# Altium footprint library wius.PcbLib: 37 footprints (part 2 of 3)
Each footprint in its own frame and in the unit in brackets; x right, y up, seen from the top. Pads: shape width x height; smd on the part's side, far side on the other; paste and mask are expansions set on the pad; w line width, h text height; cw(c..) or ccw(c..) is an arc to the next point about the centre after c.
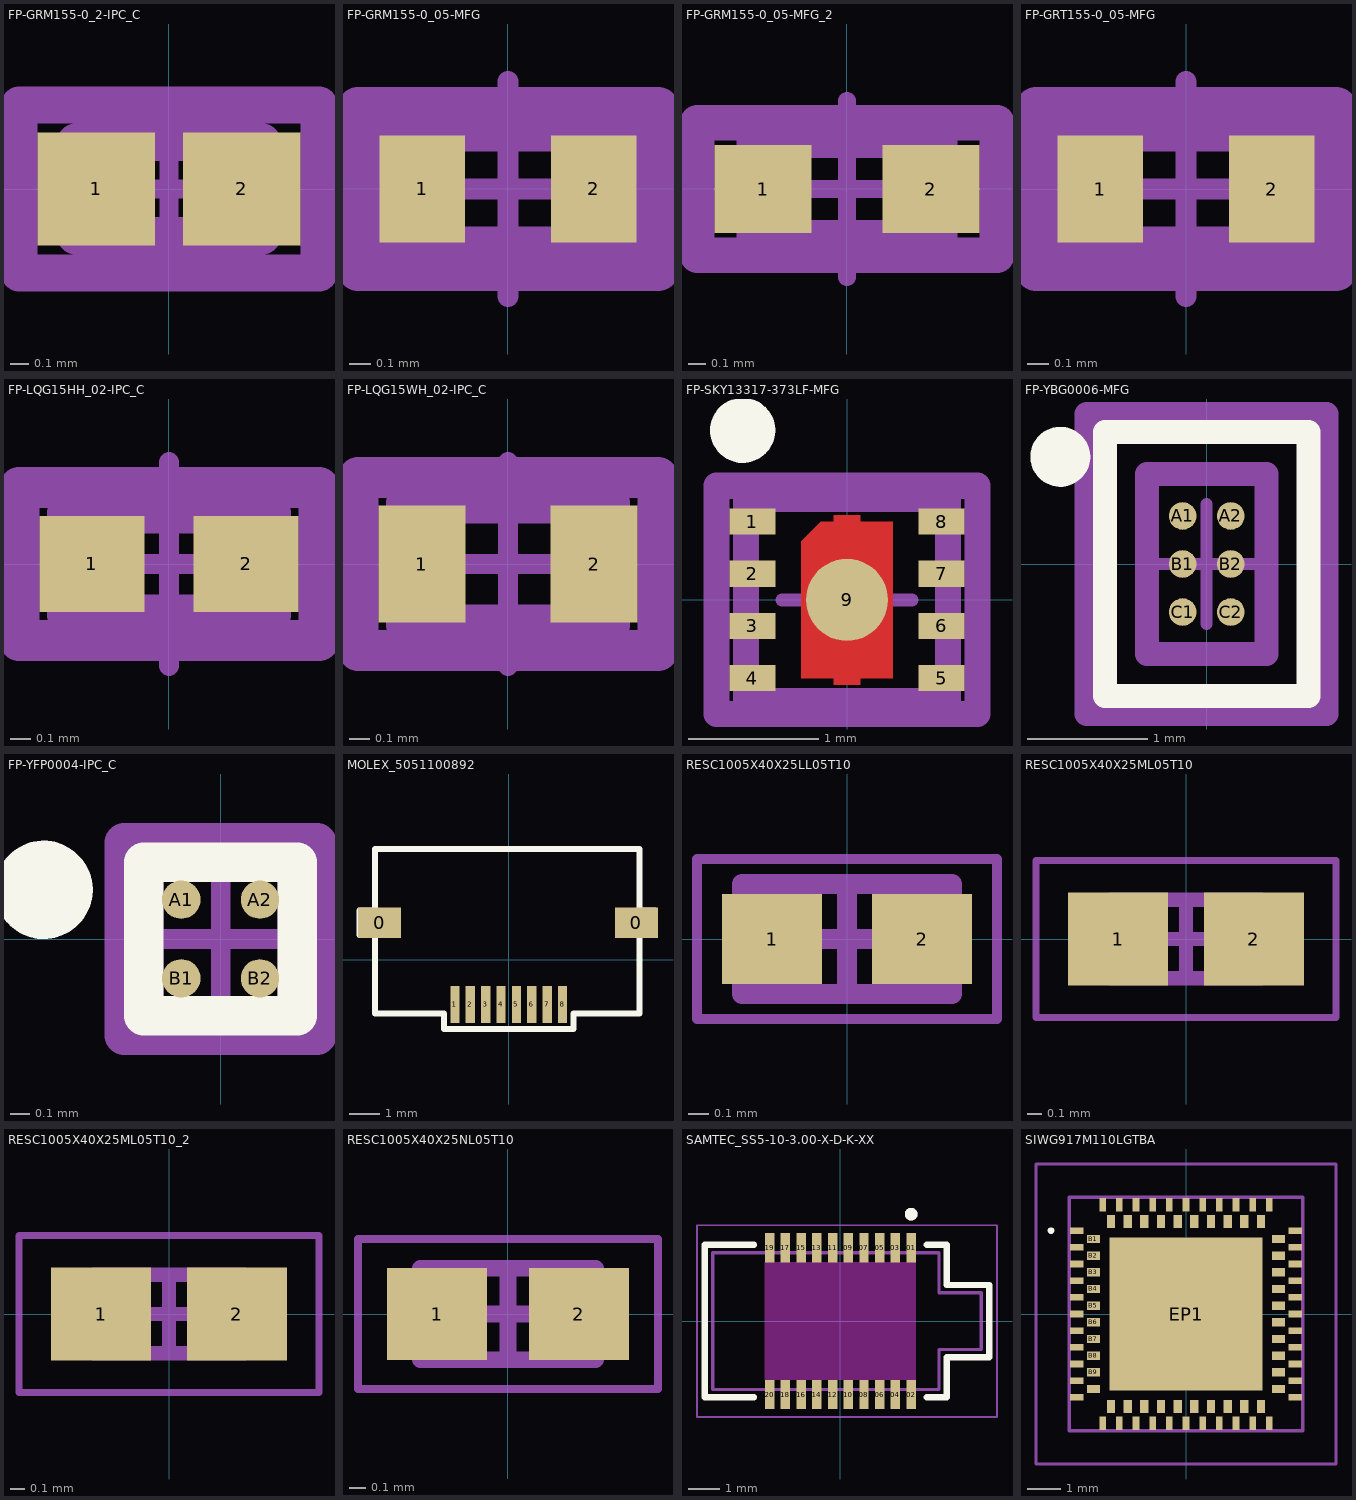
[diagram p1: the footprints below, top view; thin cyan lines are the x and y axes]

## FP-GRM155-0_2-IPC_C [mm]
pads (2):
  rect 0.628x0.606 smd paste+0 mask+0: 1(-0.389,0) 2(0.389,0)
Top Assembly:
  lines w0.2: -0.803,-0.45 0.803,-0.45 0.803,0.45 -0.803,0.45 -0.803,-0.45
  text ".Designator" at 0,0.189 h1
Top 3D Body:
  lines w0.2: -0.5,-0.25 0.5,-0.25 0.5,0.25 -0.5,0.25 -0.5,-0.25
Top Courtyard:
  lines w0.2: -0.803,-0.45 0.803,-0.45 0.803,0.45 -0.803,0.45 -0.803,-0.45
Top Component Center:
  lines w0.1: -0.5,0 0.5,0 ; 0,-0.5 0,0.5
3D body "Cap_Murata_GRM155R61E225KE11D_eec.STEP": height 0.7, standoff 0, extent -0.5,-0.25 0.5,0.25

## FP-GRM155-0_05-MFG [mm]
pads (2):
  rect 0.4x0.5 smd paste+0 mask+0: 1(-0.4,0) 2(0.4,0)
Top Assembly:
  lines w0.2: -0.7,-0.375 -0.7,0.375 0.7,0.375 0.7,-0.375 -0.7,-0.375
  text ".Designator" at 0,0.189 h1
Top 3D Body:
  lines w0.2: -0.525,-0.275 -0.525,0.275 0.525,0.275 0.525,-0.275 -0.525,-0.275
Top Courtyard:
  lines w0.2: -0.7,-0.375 -0.7,0.375 0.7,0.375 0.7,-0.375 -0.7,-0.375
Top Component Center:
  lines w0.1: -0.5,0 0.5,0 ; 0,-0.5 0,0.5
3D body "Cap_Murata_GRM1552C1H271GA01J_eec.STEP": height 0.55, standoff 0, extent -0.5,-0.25 0.5,0.25

## FP-GRM155-0_05-MFG_2 [mm]
pads (2):
  rect 0.55x0.5 smd paste+0 mask+0: 1(-0.475,0) 2(0.475,0)
Top Assembly:
  lines w0.2: -0.85,-0.375 -0.85,0.375 0.85,0.375 0.85,-0.375 -0.85,-0.375
  text ".Designator" at 0,0.189 h1
Top 3D Body:
  lines w0.2: -0.525,-0.275 -0.525,0.275 0.525,0.275 0.525,-0.275 -0.525,-0.275
Top Courtyard:
  lines w0.2: -0.85,-0.375 -0.85,0.375 0.85,0.375 0.85,-0.375 -0.85,-0.375
Top Component Center:
  lines w0.1: -0.5,0 0.5,0 ; 0,-0.5 0,0.5
3D body "Cap_Murata_Electronics_North_America_GRM1555C1H8R2DA01D_eec.STEP": height 0.25, standoff 0, extent -0.85,-0.375 0.85,0.375

## FP-GRT155-0_05-MFG [mm]
height 2.5
pads (2):
  rect 0.4x0.5 smd paste+0 mask+0: 1(-0.4,0) 2(0.4,0)
Top Assembly:
  lines w0.2: -0.7,-0.375 0.7,-0.375 0.7,0.375 -0.7,0.375 -0.7,-0.375
  text ".Designator" at 0,0.189 h1
Top 3D Body:
  lines w0.2: -0.525,-0.275 0.525,-0.275 0.525,0.275 -0.525,0.275 -0.525,-0.275
Top Courtyard:
  lines w0.2: -0.7,-0.375 0.7,-0.375 0.7,0.375 -0.7,0.375 -0.7,-0.375
Top Component Center:
  lines w0.1: -0.5,0 0.5,0 ; 0,-0.5 0,0.5
3D body "Cap_Murata_GRT155C80G225KE13J_eec.STEP": height 0.55, standoff 0, extent -0.5,-0.25 0.5,0.25

## FP-LQG15HH_02-IPC_C [mm]
pads (2):
  rect 0.515x0.472 smd paste+0 mask+0: 1(-0.379,0) 2(0.379,0)
Top Assembly:
  lines w0.2: -0.736,-0.375 -0.736,0.375 0.736,0.375 0.736,-0.375 -0.736,-0.375
  text ".Designator" at 0,0 h1
Top 3D Body:
  lines w0.2: -0.5,-0.25 -0.5,0.25 0.5,0.25 0.5,-0.25 -0.5,-0.25
Top Courtyard:
  lines w0.2: -0.736,-0.375 -0.736,0.375 0.736,0.375 0.736,-0.375 -0.736,-0.375
Top Component Center:
  lines w0.1: -0.5,0 0.5,0 ; 0,-0.5 0,0.5
3D body "Ind_Murata_LQG15HN39NJ02D_eec.STEP": height 0.25, standoff 0, extent -0.736,-0.375 0.736,0.375

## FP-LQG15WH_02-IPC_C [mm]
pads (2):
  rect 0.427x0.572 smd paste+0 mask+0: 1(-0.423,0) 2(0.423,0)
Top Assembly:
  lines w0.2: -0.736,-0.425 -0.736,0.425 0.736,0.425 0.736,-0.425 -0.736,-0.425
  text ".Designator" at 0,0 h1
Top 3D Body:
  lines w0.2: -0.5,-0.3 -0.5,0.3 0.5,0.3 0.5,-0.3 -0.5,-0.3
Top Courtyard:
  lines w0.2: -0.736,-0.425 -0.736,0.425 0.736,0.425 0.736,-0.425 -0.736,-0.425
Top Component Center:
  lines w0.1: -0.5,0 0.5,0 ; 0,-0.5 0,0.5
3D body "Ind_Murata_LQG15WZ1N1S02J_eec.STEP": height 0.25, standoff 0, extent -0.736,-0.425 0.736,0.425

## FP-SKY13317-373LF-MFG [mm]
pads (9):
  rect 0.35x0.2 smd paste+0 mask+0: 1(-0.725,0.6) 2(-0.725,0.2) 3(-0.725,-0.2) 4(-0.725,-0.6) 5(0.725,-0.6) 6(0.725,-0.2) 7(0.725,0.2) 8(0.725,0.6)
  round 0.63 smd paste+0 mask+0: 9(0,0)
Top Layer:
  region: 0.35,0.6 0.1,0.6 0.1,0.65 -0.1,0.65 -0.1,0.6 -0.2,0.6 -0.35,0.45 -0.35,-0.6 -0.1,-0.6 -0.1,-0.65 0.1,-0.65 0.1,-0.6 0.35,-0.6
Top Overlay:
  circle w0.25: c-0.8,1.3 r0.125
Top Assembly:
  lines w0.2: -1,-0.875 -1,0.875 1,0.875 1,-0.875 -1,-0.875
  text ".Designator" at 0,0 h1
Top 3D Body:
  lines w0.2: -0.775,-0.775 -0.775,0.775 0.775,0.775 0.775,-0.775 -0.775,-0.775
Top Courtyard:
  lines w0.2: -1,-0.875 -1,0.875 1,0.875 1,-0.875 -1,-0.875
Top Component Center:
  lines w0.1: -0.5,0 0.5,0 ; 0,-0.5 0,0.5
3D body "IC_Skyworks_Solutions_Inc_SKY13317-373LF_eec.STEP": height 0.25, standoff 0, extent -1,-0.875 1,0.875

## FP-YBG0006-MFG [mm]
height 2.5
pads (6):
  round 0.23 smd paste-1000 mask+0.015: A1(-0.2,0.4) A2(0.2,0.4) B1(-0.2,0) B2(0.2,0) C1(-0.2,-0.4) C2(0.2,-0.4)
Top Overlay:
  circle w0.25: c-1.219,0.893 r0.125
  lines w0.2: -0.849,-1.099 -0.849,1.099 0.849,1.099 0.849,-1.099 -0.849,-1.099
Top Paste:
  drawing of 6 lines, arcs and shapes, not listed
Top Solder:
  circle w0.165: c0.2,-0.4 r0.082
  circle w0.165: c0.2,0 r0.082
  circle w0.165: c0.2,0.4 r0.082
  circle w0.165: c-0.2,-0.4 r0.082
  circle w0.165: c-0.2,0 r0.082
  circle w0.165: c-0.2,0.4 r0.082
Top Assembly:
  lines w0.2: -0.999,-1.249 -0.999,1.249 0.999,1.249 0.999,-1.249 -0.999,-1.249
  text ".Designator" at 0,0.189 h1
Top 3D Body:
  lines w0.2: -0.499,-0.749 -0.499,0.749 0.499,0.749 0.499,-0.749 -0.499,-0.749
Top Courtyard:
  lines w0.2: -0.999,-1.249 -0.999,1.249 0.999,1.249 0.999,-1.249 -0.999,-1.249
Top Component Center:
  lines w0.1: -0.5,0 0.5,0 ; 0,-0.5 0,0.5
3D body "IC_Texas_Instruments_TMP117MAIYBGR_eec.STEP": height 0.25, standoff 0, extent -0.999,-1.249 0.999,1.249

## FP-YFP0004-IPC_C [mm]
height 2.5
pads (4):
  round 0.196 smd paste+0 mask+0: A1(-0.2,0.2) A2(0.2,0.2) B1(-0.2,-0.2) B2(0.2,-0.2)
Top Overlay:
  circle w0.25: c-0.9,0.25 r0.125
  lines w0.2: -0.39,-0.39 -0.39,0.39 0.39,0.39 0.39,-0.39 -0.39,-0.39
Top Assembly:
  lines w0.2: -0.49,-0.49 -0.49,0.49 0.49,0.49 0.49,-0.49 -0.49,-0.49
  text ".Designator" at 0,0.189 h1
Top 3D Body:
  lines w0.2: -0.39,-0.39 -0.39,0.39 0.39,0.39 0.39,-0.39 -0.39,-0.39
Top Courtyard:
  lines w0.2: -0.49,-0.49 -0.49,0.49 0.49,0.49 0.49,-0.49 -0.49,-0.49
Top Component Center:
  lines w0.1: -0.5,0 0.5,0 ; 0,-0.5 0,0.5
3D body "IC_Texas_Instruments_TPS22916BYFPR_eec.STEP": height 0.25, standoff 0, extent -0.49,-0.49 0.49,0.49

## MOLEX_5051100892 [mm]
height 2.5
pads (10):
  rect 1.4x1 smd: 0(-4.2,1.2) 0(4.15,1.2)
  rect 0.3x1.2 smd: 1(-1.75,-1.45) 2(-1.25,-1.45) 3(-0.75,-1.45) 4(-0.25,-1.45) 5(0.25,-1.45) 6(0.75,-1.45) 7(1.25,-1.45) 8(1.75,-1.45)
Top Overlay:
  lines w0.2: -4.85,0.8 -4.85,1.6 -4.35,1.6 -4.35,3.6 4.25,3.6 4.25,1.6 4.75,1.6 4.75,0.8 4.25,0.8 4.25,-1.75 2.1,-1.75 2.1,-2.25 -2.1,-2.25 -2.1,-1.75 -4.35,-1.75 -4.35,0.8 -4.85,0.8
3D body "5051100892.stp": height 1.88, standoff -0.02, extent -4.75,-1.65 4.75,3.65

## RESC1005X40X25LL05T10 [mm] "Chip Resistor, 2-Leads, Body 1.00x0.50mm, IPC High Density"
height 0.4
pads (2):
  rect 0.5x0.45 smd: 1(-0.375,0) 2(0.375,0)
Top 3D Body:
  lines w0.1: -0.525,-0.275 0.525,-0.275 0.525,0.275 -0.525,0.275 -0.525,-0.275
Top Courtyard:
  lines w0.05: -0.75,-0.4 0.75,-0.4 0.75,0.4 -0.75,0.4 -0.75,-0.4
  lines w0.1: -0.275,0 0.275,0 ; 0,-0.275 0,0.275
3D body: height 0.4, standoff 0, extent 0.275,-0.275 0.525,0.275
3D body: height 0.4, standoff 0, extent -0.525,-0.275 -0.275,0.275
3D body: height 0.4, standoff 0, extent -0.275,-0.275 0.275,0.275

## RESC1005X40X25ML05T10 [mm] "Chip Resistor, 2-Leads, Body 1.05x0.55mm, IPC Low Density"
height 0.4
pads (2):
  rect 0.7x0.65 smd: 1(-0.475,0) 2(0.475,0)
Top 3D Body:
  lines w0.1: -0.525,-0.275 -0.525,0.275 0.525,0.275 0.525,-0.275 -0.525,-0.275
Top Courtyard:
  lines w0.05: -1.05,-0.55 -1.05,0.55 1.05,0.55 1.05,-0.55 -1.05,-0.55
  lines w0.1: -0.275,0 0.275,0 ; 0,-0.275 0,0.275
3D body "RESC1005X04M.step": height 0.4, standoff 0, extent -0.525,-0.275 0.525,0.275

## RESC1005X40X25ML05T10_2 [mm]
pads (2):
  rect 0.7x0.65 smd: 1(-0.475,0) 2(0.475,0)
Top 3D Body:
  lines w0.1: -0.525,-0.275 -0.525,0.275 0.525,0.275 0.525,-0.275 -0.525,-0.275
Top Courtyard:
  lines w0.05: -1.05,-0.55 -1.05,0.55 1.05,0.55 1.05,-0.55 -1.05,-0.55
  lines w0.1: -0.275,0 0.275,0 ; 0,-0.275 0,0.275
3D body: height 0.4, standoff 0, extent -0.275,-0.275 0.275,0.275
3D body: height 0.4, standoff 0, extent -0.525,-0.275 -0.275,0.275
3D body: height 0.4, standoff 0, extent 0.275,-0.275 0.525,0.275

## RESC1005X40X25NL05T10 [mm] "Chip Resistor, 2-Leads, Body 1.00x0.50mm, IPC Medium Density"
height 0.4
pads (2):
  rect 0.6x0.55 smd: 1(-0.425,0) 2(0.425,0)
Top 3D Body:
  lines w0.1: -0.525,-0.275 0.525,-0.275 0.525,0.275 -0.525,0.275 -0.525,-0.275
Top Courtyard:
  lines w0.05: -0.9,-0.45 0.9,-0.45 0.9,0.45 -0.9,0.45 -0.9,-0.45
  lines w0.1: -0.275,0 0.275,0 ; 0,-0.275 0,0.275
3D body: height 0.4, standoff 0, extent 0.275,-0.275 0.525,0.275
3D body: height 0.4, standoff 0, extent -0.525,-0.275 -0.275,0.275
3D body: height 0.4, standoff 0, extent -0.275,-0.275 0.275,0.275

## SAMTEC_SS5-10-3.00-X-D-K-XX [mm]
pads (20):
  rect 0.3x0.93 smd: 01(2.25,2.335) 02(2.25,-2.335) 03(1.75,2.335) 04(1.75,-2.335) 05(1.25,2.335) 06(1.25,-2.335) 07(0.75,2.335) 08(0.75,-2.335) 09(0.25,2.335) 10(0.25,-2.335) 11(-0.25,2.335) 12(-0.25,-2.335) 13(-0.75,2.335) 14(-0.75,-2.335) 15(-1.25,2.335) 16(-1.25,-2.335) 17(-1.75,2.335) 18(-1.75,-2.335) 19(-2.25,2.335) 20(-2.25,-2.335)
Top Layer keep-out:
  region: 2.4,-1.87 -2.4,-1.87 -2.4,1.87 2.4,1.87
  region: 2.4,-1.87 -2.4,-1.87 -2.4,1.87 2.4,1.87
Top Overlay:
  circle w0.2: c2.25,3.4 r0.1
  lines w0.2: -2.75,-2.425 -4.31,-2.425 -4.31,2.425 -2.75,2.425 ; 2.75,-2.425 3.38,-2.425 3.38,-1.15 4.73,-1.15 4.73,1.15 3.38,1.15 3.38,2.425 2.75,2.425
Top 3D Body:
  circle w0.2: c2.25,3.4 r0.1
  lines w0.1: -4.06,-2.175 -4.06,2.175 3.13,2.175 3.13,0.9 4.48,0.9 4.48,-0.9 3.13,-0.9 3.13,-2.175 -4.06,-2.175
Top Courtyard:
  lines w0.05: -4.56,-3.05 -4.56,3.05 4.98,3.05 4.98,-3.05 -4.56,-3.05
3D body "SS5-10-3.00-L-D-K-TR.stp": height 3.37, standoff -0.13, extent -4.06,-2.5 4.48,2.5

## SIWG917M110LGTBA [mm]
pads (85):
  rect 0.4x0.2 smd mask+0: A1(-3.275,2.5) A2(-3.275,2) A3(-3.275,1.5) A4(-3.275,1) A5(-3.275,0.5) A6(-3.275,0) A7(-3.275,-0.5) A8(-3.275,-1) A9(-3.275,-1.5) A10(-3.275,-2) A11(-3.275,-2.5) A23(3.275,-2.5) A24(3.275,-2) A25(3.275,-1.5) A26(3.275,-1) A27(3.275,-0.5) A28(3.275,0) A29(3.275,0.5) A30(3.275,1) A31(3.275,1.5) A32(3.275,2) A33(3.275,2.5)
  rect 0.2x0.4 smd mask+0: A12(-2.5,-3.275) A13(-2,-3.275) A14(-1.5,-3.275) A15(-1,-3.275) A16(-0.5,-3.275) A17(0,-3.275) A18(0.5,-3.275) A19(1,-3.275) A20(1.5,-3.275) A21(2,-3.275) A22(2.5,-3.275) A34(2.5,3.275) A35(2,3.275) A36(1.5,3.275) A37(1,3.275) A38(0.5,3.275) A39(0,3.275) A40(-0.5,3.275) A41(-1,3.275) A42(-1.5,3.275) A43(-2,3.275) A44(-2.5,3.275)
  rect 0.4x0.25 smd mask+0: B1(-2.775,2.25) B2(-2.775,1.75) B3(-2.775,1.25) B4(-2.775,0.75) B5(-2.775,0.25) B6(-2.775,-0.25) B7(-2.775,-0.75) B8(-2.775,-1.25) B9(-2.775,-1.75) B10(-2.775,-2.25) B21(2.775,-2.25) B22(2.775,-1.75) B23(2.775,-1.25) B24(2.775,-0.75) B25(2.775,-0.25) B26(2.775,0.25) B27(2.775,0.75) B28(2.775,1.25) B29(2.775,1.75) B30(2.775,2.25)
  rect 0.25x0.4 smd mask+0: B11(-2.25,-2.775) B12(-1.75,-2.775) B13(-1.25,-2.775) B14(-0.75,-2.775) B15(-0.25,-2.775) B16(0.25,-2.775) B17(0.75,-2.775) B18(1.25,-2.775) B19(1.75,-2.775) B20(2.25,-2.775) B31(2.25,2.775) B32(1.75,2.775) B33(1.25,2.775) B34(0.75,2.775) B35(0.25,2.775) B36(-0.25,2.775) B37(-0.75,2.775) B38(-1.25,2.775) B39(-1.75,2.775) B40(-2.25,2.775)
  rect 4.6x4.6 smd: EP1(0,0)
Top Overlay:
  lines w0.1: -4.1,2.5 cw(c-4.05,2.5) -4,2.5 cw(c-4.05,2.5) -4.1,2.5
Top Courtyard:
  lines w0.1: -3.5,-3.5 -3.5,3.5 3.5,3.5 3.5,-3.5 -3.5,-3.5
Bottom Assembly:
  lines w0.1: -4.5,-4.5 -4.5,4.5 4.5,4.5 4.5,-4.5 -4.5,-4.5
3D body "SIWG917M110LGTBA.stp": height 1.05, standoff 0, extent -3.5,-3.5 3.5,3.5